# Altium integrated library TI Power Management Power Modules.IntLib: 831 symbols (part 17 of 44)
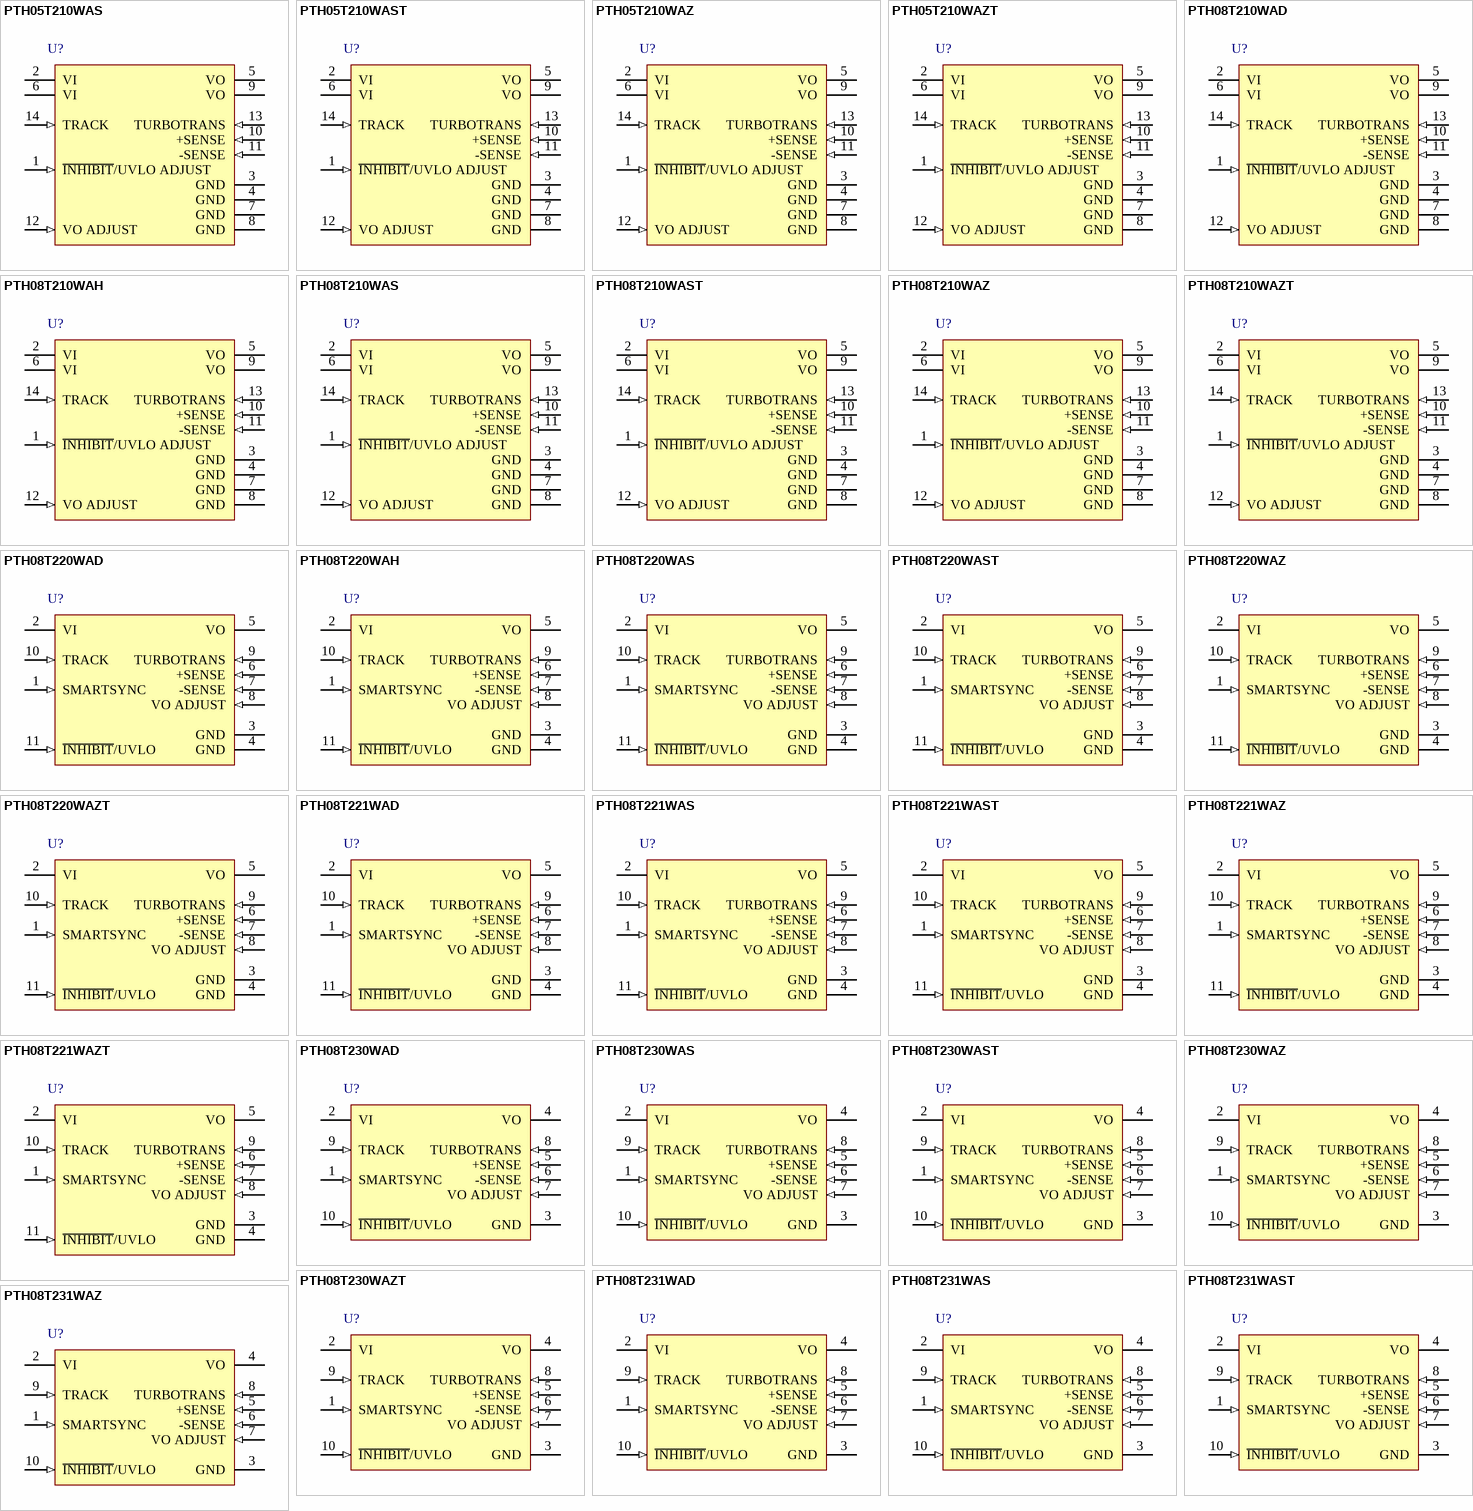
[diagram p39: symbols PTH05T210WAS to PTH08T231WAZ]

## PTH08T220WAH
designator U?
16 A, 4.5 to 14 V Input, Non-Isolated, Wide Output Adjust, Power Module with TurboTrans, -40 to 85 degC, 11-pin Module (EAS11), Pb-Free (RoHS); Manufacturer: Texas Instruments; PartNumber: PTH08T220WAH; Iout(Max)(A): 16; Regulated Outputs(#): 1; SubFamily: Non-Isolated POL; Vin(Max)(V): 14; Vin(Min)(V): 4.5; VO Adjustable: TRUE; Vout(Max)(V): 5.5; Vout(Min)(V): 0.69; DatasheetVersion: SLTS252K; PackageVersion: 4207363/E; PackageReference: EAS11; PackageDescription: 11-Pin Plastic Special Shape, Body 18.93 x 22.1 mm; Supplier 1: Digi-Key; Supplier Part Number 1: 296-20439-ND; Supplier 2: Newark; Supplier Part Number 2: 28M9273; Supplier 3: Mouser; Supplier Part Number 3: 595-PTH08T220WAH; Eco-Plan: Pb-Free (RoHS); Mounting Technology: Through Hole; ComponentLink1Description: Manufacturer URL; ComponentLink1URL: http://www.ti.com/; ComponentLink2Description: Datasheet; ComponentLink2URL: http://www.ti.com/general/docs/lit/getliterature.tsp?genericPartNumber=PTH08T220W&fileType=pdf; ComponentLink3Description: Package Specification; ComponentLink3URL: http://www.ti.com/litv/pdf/mpds228d; ComponentLink4Description: URL Link1; ComponentLink4URL: Samples URL:http://www.ti.com/product/pth08t220w#samples
footprint TI-EAS11_V (Module, 11-Leads, Body 22.1x18.93 mm)
pins: 1 SMARTSYNC (in) "This input pin sychronizes the switching frequency of the module to an external clock frequency. The SmartSync feature can be used to sychronize the switching fequency of multiple PTH08T220/221W modules, aiding EMI noise (See Datasheet)", 2 VI (power) "The positive input voltage power node to the module, which is referenced to common GND.", 3 GND (power) "This is the common ground connection for the VI and VO power connections. It is also the 0 Vdc reference for the control inputs.", 4 GND (power) "This is the common ground connection for the VI and VO power connections. It is also the 0 Vdc reference for the control inputs.", 5 VO (power) "The regulated positive power output with respect to GND.", 6 +SENSE (in) "The sense input allows the regulation circuit to compensate for voltage drop between the module and the load. For optimal voltage accuracy, +Sense must be connected to VO, very close to the load.", 7 -SENSE (in) "The sense input allows the regulation circuit to compensate for voltage drop between the module and the load. For optimal voltage accuracy -Sense must be connected to GND (pin4) very close to the module (within 10cm).", 8 VO ADJUST (in) "A 0.05 W 1% resistor must be directly connected between this pin and pin7 (-Sense) to set the output voltage to a value higher than 0.69V. The temperature stability of the resistor should be 100 ppm/degreesC (or better). The (See Datasheet)", 9 TURBOTRANS (in) "This input pin adjusts the transient response of the regulator. To activate the TurboTrans? feature, a 1%, 50mW resistor must be connected between this pin and pin 6 (+Sense) very close to the module. For a given value of (See Datasheet)", 10 TRACK (in) "This is an analog control input that enables the output voltage to follow an external voltage. This pin becomes active typically 20 ms after the input voltage has been applied, and allows direct control of the output voltage (See Datasheet)", 11 ~{INHIBIT}/UVLO (in) "The Inhibit pin is an open-collector/drain, negative logic input that is referenced to GND. Applying a low level ground signal to this input disables the module’s output and turns off the output voltage. When the Inhibit (See Datasheet)"

## PTH08T220WAS
designator U?
16 A, 4.5 to 14 V Input, Non-Isolated, Wide Output Adjust, Power Module with TurboTrans, -40 to 85 degC, 11-pin Module (EAT11); Manufacturer: Texas Instruments; PartNumber: PTH08T220WAS; Eco-Plan: TBD; Iout(Max)(A): 16; Regulated Outputs(#): 1; SubFamily: Non-Isolated POL; Vin(Max)(V): 14; Vin(Min)(V): 4.5; VO Adjustable: TRUE; Vout(Max)(V): 5.5; Vout(Min)(V): 0.69; DatasheetVersion: SLTS252K; PackageVersion: 4207364/E; PackageReference: EAT11; PackageDescription: 11-Pin Plastic Special Shape, Body 18.93 x 22.1 mm; Supplier 1: Digi-Key; Supplier Part Number 1: 296-20440-ND; Supplier 2: Newark; Supplier Part Number 2: 66K4118; Supplier 3: Mouser; Supplier Part Number 3: 595-PTH08T220WAS; Mounting Technology: Surface Mount; ComponentLink1Description: Manufacturer URL; ComponentLink1URL: http://www.ti.com/; ComponentLink2Description: Datasheet; ComponentLink2URL: http://www.ti.com/general/docs/lit/getliterature.tsp?genericPartNumber=PTH08T220W&fileType=pdf; ComponentLink3Description: Package Specification; ComponentLink3URL: http://www.ti.com/litv/pdf/mpds229d; ComponentLink4Description: URL Link1; ComponentLink4URL: Samples URL:http://www.ti.com/product/pth08t220w#samples
footprint TI-EAT11_V (Module, 11-Leads, Body 22.1x18.93mm)
pins: 1 SMARTSYNC (in) "This input pin sychronizes the switching frequency of the module to an external clock frequency. The SmartSync feature can be used to sychronize the switching fequency of multiple PTH08T220/221W modules, aiding EMI noise (See Datasheet)", 2 VI (power) "The positive input voltage power node to the module, which is referenced to common GND.", 3 GND (power) "This is the common ground connection for the VI and VO power connections. It is also the 0 Vdc reference for the control inputs.", 4 GND (power) "This is the common ground connection for the VI and VO power connections. It is also the 0 Vdc reference for the control inputs.", 5 VO (power) "The regulated positive power output with respect to GND.", 6 +SENSE (in) "The sense input allows the regulation circuit to compensate for voltage drop between the module and the load. For optimal voltage accuracy, +Sense must be connected to VO, very close to the load.", 7 -SENSE (in) "The sense input allows the regulation circuit to compensate for voltage drop between the module and the load. For optimal voltage accuracy -Sense must be connected to GND (pin4) very close to the module (within 10cm).", 8 VO ADJUST (in) "A 0.05 W 1% resistor must be directly connected between this pin and pin7 (-Sense) to set the output voltage to a value higher than 0.69V. The temperature stability of the resistor should be 100 ppm/degreesC (or better). The (See Datasheet)", 9 TURBOTRANS (in) "This input pin adjusts the transient response of the regulator. To activate the TurboTrans? feature, a 1%, 50mW resistor must be connected between this pin and pin 6 (+Sense) very close to the module. For a given value of (See Datasheet)", 10 TRACK (in) "This is an analog control input that enables the output voltage to follow an external voltage. This pin becomes active typically 20 ms after the input voltage has been applied, and allows direct control of the output voltage (See Datasheet)", 11 ~{INHIBIT}/UVLO (in) "The Inhibit pin is an open-collector/drain, negative logic input that is referenced to GND. Applying a low level ground signal to this input disables the module’s output and turns off the output voltage. When the Inhibit (See Datasheet)"

## PTH08T220WAST
designator U?
16 A, 4.5 to 14 V Input, Non-Isolated, Wide Output Adjust, Power Module with TurboTrans, -40 to 85 degC, 11-pin Module (EAT11); Manufacturer: Texas Instruments; PartNumber: PTH08T220WAST; Eco-Plan: TBD; Iout(Max)(A): 16; Regulated Outputs(#): 1; SubFamily: Non-Isolated POL; Vin(Max)(V): 14; Vin(Min)(V): 4.5; VO Adjustable: TRUE; Vout(Max)(V): 5.5; Vout(Min)(V): 0.69; DatasheetVersion: SLTS252K; PackageVersion: 4207364/E; PackageReference: EAT11; PackageDescription: 11-Pin Plastic Special Shape, Body 18.93 x 22.1 mm; Supplier 1: Digi-Key; Supplier Part Number 1: PTH08T220WAST-ND; Supplier 2: Newark; Supplier Part Number 2: 66K4119; Supplier 3: Mouser; Supplier Part Number 3: 595-PTH08T220WAST; Mounting Technology: Surface Mount; ComponentLink1Description: Manufacturer URL; ComponentLink1URL: http://www.ti.com/; ComponentLink2Description: Datasheet; ComponentLink2URL: http://www.ti.com/general/docs/lit/getliterature.tsp?genericPartNumber=PTH08T220W&fileType=pdf; ComponentLink3Description: Package Specification; ComponentLink3URL: http://www.ti.com/litv/pdf/mpds229d; ComponentLink4Description: URL Link1; ComponentLink4URL: Samples URL:http://www.ti.com/product/pth08t220w#samples
footprint TI-EAT11_V (Module, 11-Leads, Body 22.1x18.93mm)
pins: 1 SMARTSYNC (in) "This input pin sychronizes the switching frequency of the module to an external clock frequency. The SmartSync feature can be used to sychronize the switching fequency of multiple PTH08T220/221W modules, aiding EMI noise (See Datasheet)", 2 VI (power) "The positive input voltage power node to the module, which is referenced to common GND.", 3 GND (power) "This is the common ground connection for the VI and VO power connections. It is also the 0 Vdc reference for the control inputs.", 4 GND (power) "This is the common ground connection for the VI and VO power connections. It is also the 0 Vdc reference for the control inputs.", 5 VO (power) "The regulated positive power output with respect to GND.", 6 +SENSE (in) "The sense input allows the regulation circuit to compensate for voltage drop between the module and the load. For optimal voltage accuracy, +Sense must be connected to VO, very close to the load.", 7 -SENSE (in) "The sense input allows the regulation circuit to compensate for voltage drop between the module and the load. For optimal voltage accuracy -Sense must be connected to GND (pin4) very close to the module (within 10cm).", 8 VO ADJUST (in) "A 0.05 W 1% resistor must be directly connected between this pin and pin7 (-Sense) to set the output voltage to a value higher than 0.69V. The temperature stability of the resistor should be 100 ppm/degreesC (or better). The (See Datasheet)", 9 TURBOTRANS (in) "This input pin adjusts the transient response of the regulator. To activate the TurboTrans? feature, a 1%, 50mW resistor must be connected between this pin and pin 6 (+Sense) very close to the module. For a given value of (See Datasheet)", 10 TRACK (in) "This is an analog control input that enables the output voltage to follow an external voltage. This pin becomes active typically 20 ms after the input voltage has been applied, and allows direct control of the output voltage (See Datasheet)", 11 ~{INHIBIT}/UVLO (in) "The Inhibit pin is an open-collector/drain, negative logic input that is referenced to GND. Applying a low level ground signal to this input disables the module’s output and turns off the output voltage. When the Inhibit (See Datasheet)"

## PTH08T220WAZ
designator U?
16 A, 4.5 to 14 V Input, Non-Isolated, Wide Output Adjust, Power Module with TurboTrans, -40 to 85 degC, 11-pin Module (BAT11), Pb-Free (RoHS); Manufacturer: Texas Instruments; PartNumber: PTH08T220WAZ; Iout(Max)(A): 16; Regulated Outputs(#): 1; SubFamily: Non-Isolated POL; Vin(Max)(V): 14; Vin(Min)(V): 4.5; VO Adjustable: TRUE; Vout(Max)(V): 5.5; Vout(Min)(V): 0.69; DatasheetVersion: SLTS252K; PackageVersion: 4207715/E; PackageReference: BAT11; PackageDescription: 11-Pin Plastic Special Shape, Body 18.93 x 22.1 mm; Supplier 1: Digi-Key; Supplier Part Number 1: 296-20441-ND; Supplier 2: Farnell; Supplier Part Number 2: 1704191; Supplier 3: Newark; Supplier Part Number 3: 66K4120; Supplier 4: Mouser; Supplier Part Number 4: 595-PTH08T220WAZ; Eco-Plan: Pb-Free (RoHS); Mounting Technology: Surface Mount; ComponentLink1Description: Manufacturer URL; ComponentLink1URL: http://www.ti.com/; ComponentLink2Description: Datasheet; ComponentLink2URL: http://www.ti.com/general/docs/lit/getliterature.tsp?genericPartNumber=PTH08T220W&fileType=pdf; ComponentLink3Description: Package Specification; ComponentLink3URL: http://www.ti.com/lit/ml/mpds264d/mpds264d.pdf; ComponentLink4Description: URL Link1; ComponentLink4URL: Samples URL:http://www.ti.com/product/pth08t220w#samples
footprint TI-BAT11_V (Module, 11-Leads, Body 22.1x18.93mm)
pins: 1 SMARTSYNC (in) "This input pin sychronizes the switching frequency of the module to an external clock frequency. The SmartSync feature can be used to sychronize the switching fequency of multiple PTH08T220/221W modules, aiding EMI noise (See Datasheet)", 2 VI (power) "The positive input voltage power node to the module, which is referenced to common GND.", 3 GND (power) "This is the common ground connection for the VI and VO power connections. It is also the 0 Vdc reference for the control inputs.", 4 GND (power) "This is the common ground connection for the VI and VO power connections. It is also the 0 Vdc reference for the control inputs.", 5 VO (power) "The regulated positive power output with respect to GND.", 6 +SENSE (in) "The sense input allows the regulation circuit to compensate for voltage drop between the module and the load. For optimal voltage accuracy, +Sense must be connected to VO, very close to the load.", 7 -SENSE (in) "The sense input allows the regulation circuit to compensate for voltage drop between the module and the load. For optimal voltage accuracy -Sense must be connected to GND (pin4) very close to the module (within 10cm).", 8 VO ADJUST (in) "A 0.05 W 1% resistor must be directly connected between this pin and pin7 (-Sense) to set the output voltage to a value higher than 0.69V. The temperature stability of the resistor should be 100 ppm/degreesC (or better). The (See Datasheet)", 9 TURBOTRANS (in) "This input pin adjusts the transient response of the regulator. To activate the TurboTrans? feature, a 1%, 50mW resistor must be connected between this pin and pin 6 (+Sense) very close to the module. For a given value of (See Datasheet)", 10 TRACK (in) "This is an analog control input that enables the output voltage to follow an external voltage. This pin becomes active typically 20 ms after the input voltage has been applied, and allows direct control of the output voltage (See Datasheet)", 11 ~{INHIBIT}/UVLO (in) "The Inhibit pin is an open-collector/drain, negative logic input that is referenced to GND. Applying a low level ground signal to this input disables the module’s output and turns off the output voltage. When the Inhibit (See Datasheet)"

## PTH08T220WAZT
designator U?
16 A, 4.5 to 14 V Input, Non-Isolated, Wide Output Adjust, Power Module with TurboTrans, -40 to 85 degC, 11-pin Module (BAT11), Pb-Free (RoHS); Manufacturer: Texas Instruments; PartNumber: PTH08T220WAZT; Iout(Max)(A): 16; Regulated Outputs(#): 1; SubFamily: Non-Isolated POL; Vin(Max)(V): 14; Vin(Min)(V): 4.5; VO Adjustable: TRUE; Vout(Max)(V): 5.5; Vout(Min)(V): 0.69; DatasheetVersion: SLTS252K; PackageVersion: 4207715/E; PackageReference: BAT11; PackageDescription: 11-Pin Plastic Special Shape, Body 18.93 x 22.1 mm; Supplier 1: Digi-Key; Supplier Part Number 1: PTH08T220WAZT-ND; Supplier 2: Newark; Supplier Part Number 2: 66K4121; Supplier 3: Mouser; Supplier Part Number 3: 595-PTH08T220WAZT; Eco-Plan: Pb-Free (RoHS); Mounting Technology: Surface Mount; ComponentLink1Description: Manufacturer URL; ComponentLink1URL: http://www.ti.com/; ComponentLink2Description: Datasheet; ComponentLink2URL: http://www.ti.com/general/docs/lit/getliterature.tsp?genericPartNumber=PTH08T220W&fileType=pdf; ComponentLink3Description: Package Specification; ComponentLink3URL: http://www.ti.com/lit/ml/mpds264d/mpds264d.pdf; ComponentLink4Description: URL Link1; ComponentLink4URL: Samples URL:http://www.ti.com/product/pth08t220w#samples
footprint TI-BAT11_V (Module, 11-Leads, Body 22.1x18.93mm)
pins: 1 SMARTSYNC (in) "This input pin sychronizes the switching frequency of the module to an external clock frequency. The SmartSync feature can be used to sychronize the switching fequency of multiple PTH08T220/221W modules, aiding EMI noise (See Datasheet)", 2 VI (power) "The positive input voltage power node to the module, which is referenced to common GND.", 3 GND (power) "This is the common ground connection for the VI and VO power connections. It is also the 0 Vdc reference for the control inputs.", 4 GND (power) "This is the common ground connection for the VI and VO power connections. It is also the 0 Vdc reference for the control inputs.", 5 VO (power) "The regulated positive power output with respect to GND.", 6 +SENSE (in) "The sense input allows the regulation circuit to compensate for voltage drop between the module and the load. For optimal voltage accuracy, +Sense must be connected to VO, very close to the load.", 7 -SENSE (in) "The sense input allows the regulation circuit to compensate for voltage drop between the module and the load. For optimal voltage accuracy -Sense must be connected to GND (pin4) very close to the module (within 10cm).", 8 VO ADJUST (in) "A 0.05 W 1% resistor must be directly connected between this pin and pin7 (-Sense) to set the output voltage to a value higher than 0.69V. The temperature stability of the resistor should be 100 ppm/degreesC (or better). The (See Datasheet)", 9 TURBOTRANS (in) "This input pin adjusts the transient response of the regulator. To activate the TurboTrans? feature, a 1%, 50mW resistor must be connected between this pin and pin 6 (+Sense) very close to the module. For a given value of (See Datasheet)", 10 TRACK (in) "This is an analog control input that enables the output voltage to follow an external voltage. This pin becomes active typically 20 ms after the input voltage has been applied, and allows direct control of the output voltage (See Datasheet)", 11 ~{INHIBIT}/UVLO (in) "The Inhibit pin is an open-collector/drain, negative logic input that is referenced to GND. Applying a low level ground signal to this input disables the module’s output and turns off the output voltage. When the Inhibit (See Datasheet)"

## PTH08T221WAD
designator U?
16 A, 4.5 to 14 V Input, Ceramic Cap Version, Non-Iso, Wide Output Adj, Pwr Module with TurboTrans, -40 to 85 degC, 11-pin Module (EAS11), Pb-Free (RoHS); Manufacturer: Texas Instruments; PartNumber: PTH08T221WAD; Iout(Max)(A): 16; Regulated Outputs(#): 1; SubFamily: Non-Isolated POL; Vin(Max)(V): 14; Vin(Min)(V): 4.5; VO Adjustable: TRUE; Vout(Max)(V): 5.5; Vout(Min)(V): 0.69; DatasheetVersion: SLTS252K; PackageVersion: 4207363/E; PackageReference: EAS11; PackageDescription: 11-Pin Plastic Special Shape, Body 18.93 x 22.1 mm; Supplier 1: Digi-Key; Supplier Part Number 1: 296-21334-ND; Supplier 2: Farnell; Supplier Part Number 2: 1755098; Supplier 3: Newark; Supplier Part Number 3: 34R8211; Supplier 4: Newark; Supplier Part Number 4: 22M1617; Supplier 5: Mouser; Supplier Part Number 5: 595-PTH08T221WAD; Eco-Plan: Pb-Free (RoHS); Mounting Technology: Through Hole; ComponentLink1Description: Manufacturer URL; ComponentLink1URL: http://www.ti.com/; ComponentLink2Description: Datasheet; ComponentLink2URL: http://www.ti.com/general/docs/lit/getliterature.tsp?genericPartNumber=PTH08T221W&fileType=pdf; ComponentLink3Description: Package Specification; ComponentLink3URL: http://www.ti.com/litv/pdf/mpds228d; ComponentLink4Description: URL Link1; ComponentLink4URL: Samples URL:http://www.ti.com/product/pth08t221w#samples
footprint TI-EAS11_V (Module, 11-Leads, Body 22.1x18.93 mm)
pins: 1 SMARTSYNC (in) "This input pin sychronizes the switching frequency of the module to an external clock frequency. The SmartSync feature can be used to sychronize the switching fequency of multiple PTH08T220/221W modules, aiding EMI noise (See Datasheet)", 2 VI (power) "The positive input voltage power node to the module, which is referenced to common GND.", 3 GND (power) "This is the common ground connection for the VI and VO power connections. It is also the 0 Vdc reference for the control inputs.", 4 GND (power) "This is the common ground connection for the VI and VO power connections. It is also the 0 Vdc reference for the control inputs.", 5 VO (power) "The regulated positive power output with respect to GND.", 6 +SENSE (in) "The sense input allows the regulation circuit to compensate for voltage drop between the module and the load. For optimal voltage accuracy, +Sense must be connected to VO, very close to the load.", 7 -SENSE (in) "The sense input allows the regulation circuit to compensate for voltage drop between the module and the load. For optimal voltage accuracy -Sense must be connected to GND (pin4) very close to the module (within 10cm).", 8 VO ADJUST (in) "A 0.05 W 1% resistor must be directly connected between this pin and pin7 (-Sense) to set the output voltage to a value higher than 0.69V. The temperature stability of the resistor should be 100 ppm/degreesC (or better). The (See Datasheet)", 9 TURBOTRANS (in) "This input pin adjusts the transient response of the regulator. To activate the TurboTrans? feature, a 1%, 50mW resistor must be connected between this pin and pin 6 (+Sense) very close to the module. For a given value of (See Datasheet)", 10 TRACK (in) "This is an analog control input that enables the output voltage to follow an external voltage. This pin becomes active typically 20 ms after the input voltage has been applied, and allows direct control of the output voltage (See Datasheet)", 11 ~{INHIBIT}/UVLO (in) "The Inhibit pin is an open-collector/drain, negative logic input that is referenced to GND. Applying a low level ground signal to this input disables the module’s output and turns off the output voltage. When the Inhibit (See Datasheet)"

## PTH08T221WAS
designator U?
16 A, 4.5 to 14 V Input, Ceramic Cap Version, Non-Iso, Wide Output Adj, Pwr Module with TurboTrans, -40 to 85 degC, 11-pin Module (EAT11); Manufacturer: Texas Instruments; PartNumber: PTH08T221WAS; Eco-Plan: TBD; Iout(Max)(A): 16; Regulated Outputs(#): 1; SubFamily: Non-Isolated POL; Vin(Max)(V): 14; Vin(Min)(V): 4.5; VO Adjustable: TRUE; Vout(Max)(V): 5.5; Vout(Min)(V): 0.69; DatasheetVersion: SLTS252K; PackageVersion: 4207364/E; PackageReference: EAT11; PackageDescription: 11-Pin Plastic Special Shape, Body 18.93 x 22.1 mm; Supplier 1: Digi-Key; Supplier Part Number 1: 296-21335-ND; Supplier 2: Newark; Supplier Part Number 2: 22M1618; Supplier 3: Mouser; Supplier Part Number 3: 595-PTH08T221WAS; Mounting Technology: Surface Mount; ComponentLink1Description: Manufacturer URL; ComponentLink1URL: http://www.ti.com/; ComponentLink2Description: Datasheet; ComponentLink2URL: http://www.ti.com/general/docs/lit/getliterature.tsp?genericPartNumber=PTH08T221W&fileType=pdf; ComponentLink3Description: Package Specification; ComponentLink3URL: http://www.ti.com/litv/pdf/mpds229d; ComponentLink4Description: URL Link1; ComponentLink4URL: Samples URL:http://www.ti.com/product/pth08t221w#samples
footprint TI-EAT11_V (Module, 11-Leads, Body 22.1x18.93mm)
pins: 1 SMARTSYNC (in) "This input pin sychronizes the switching frequency of the module to an external clock frequency. The SmartSync feature can be used to sychronize the switching fequency of multiple PTH08T220/221W modules, aiding EMI noise (See Datasheet)", 2 VI (power) "The positive input voltage power node to the module, which is referenced to common GND.", 3 GND (power) "This is the common ground connection for the VI and VO power connections. It is also the 0 Vdc reference for the control inputs.", 4 GND (power) "This is the common ground connection for the VI and VO power connections. It is also the 0 Vdc reference for the control inputs.", 5 VO (power) "The regulated positive power output with respect to GND.", 6 +SENSE (in) "The sense input allows the regulation circuit to compensate for voltage drop between the module and the load. For optimal voltage accuracy, +Sense must be connected to VO, very close to the load.", 7 -SENSE (in) "The sense input allows the regulation circuit to compensate for voltage drop between the module and the load. For optimal voltage accuracy -Sense must be connected to GND (pin4) very close to the module (within 10cm).", 8 VO ADJUST (in) "A 0.05 W 1% resistor must be directly connected between this pin and pin7 (-Sense) to set the output voltage to a value higher than 0.69V. The temperature stability of the resistor should be 100 ppm/degreesC (or better). The (See Datasheet)", 9 TURBOTRANS (in) "This input pin adjusts the transient response of the regulator. To activate the TurboTrans? feature, a 1%, 50mW resistor must be connected between this pin and pin 6 (+Sense) very close to the module. For a given value of (See Datasheet)", 10 TRACK (in) "This is an analog control input that enables the output voltage to follow an external voltage. This pin becomes active typically 20 ms after the input voltage has been applied, and allows direct control of the output voltage (See Datasheet)", 11 ~{INHIBIT}/UVLO (in) "The Inhibit pin is an open-collector/drain, negative logic input that is referenced to GND. Applying a low level ground signal to this input disables the module’s output and turns off the output voltage. When the Inhibit (See Datasheet)"

## PTH08T221WAST
designator U?
16 A, 4.5 to 14 V Input, Ceramic Cap Version, Non-Iso, Wide Output Adj, Pwr Module with TurboTrans, -40 to 85 degC, 11-pin Module (EAT11); Manufacturer: Texas Instruments; PartNumber: PTH08T221WAST; Eco-Plan: TBD; Iout(Max)(A): 16; Regulated Outputs(#): 1; SubFamily: Non-Isolated POL; Vin(Max)(V): 14; Vin(Min)(V): 4.5; VO Adjustable: TRUE; Vout(Max)(V): 5.5; Vout(Min)(V): 0.69; DatasheetVersion: SLTS252K; PackageVersion: 4207364/E; PackageReference: EAT11; PackageDescription: 11-Pin Plastic Special Shape, Body 18.93 x 22.1 mm; Supplier 1: Digi-Key; Supplier Part Number 1: PTH08T221WAST-ND; Supplier 2: Newark; Supplier Part Number 2: 22M1619; Supplier 3: Mouser; Supplier Part Number 3: 595-PTH08T221WAST; Mounting Technology: Surface Mount; ComponentLink1Description: Manufacturer URL; ComponentLink1URL: http://www.ti.com/; ComponentLink2Description: Datasheet; ComponentLink2URL: http://www.ti.com/general/docs/lit/getliterature.tsp?genericPartNumber=PTH08T221W&fileType=pdf; ComponentLink3Description: Package Specification; ComponentLink3URL: http://www.ti.com/litv/pdf/mpds229d; ComponentLink4Description: URL Link1; ComponentLink4URL: Samples URL:http://www.ti.com/product/pth08t221w#samples
footprint TI-EAT11_V (Module, 11-Leads, Body 22.1x18.93mm)
pins: 1 SMARTSYNC (in) "This input pin sychronizes the switching frequency of the module to an external clock frequency. The SmartSync feature can be used to sychronize the switching fequency of multiple PTH08T220/221W modules, aiding EMI noise (See Datasheet)", 2 VI (power) "The positive input voltage power node to the module, which is referenced to common GND.", 3 GND (power) "This is the common ground connection for the VI and VO power connections. It is also the 0 Vdc reference for the control inputs.", 4 GND (power) "This is the common ground connection for the VI and VO power connections. It is also the 0 Vdc reference for the control inputs.", 5 VO (power) "The regulated positive power output with respect to GND.", 6 +SENSE (in) "The sense input allows the regulation circuit to compensate for voltage drop between the module and the load. For optimal voltage accuracy, +Sense must be connected to VO, very close to the load.", 7 -SENSE (in) "The sense input allows the regulation circuit to compensate for voltage drop between the module and the load. For optimal voltage accuracy -Sense must be connected to GND (pin4) very close to the module (within 10cm).", 8 VO ADJUST (in) "A 0.05 W 1% resistor must be directly connected between this pin and pin7 (-Sense) to set the output voltage to a value higher than 0.69V. The temperature stability of the resistor should be 100 ppm/degreesC (or better). The (See Datasheet)", 9 TURBOTRANS (in) "This input pin adjusts the transient response of the regulator. To activate the TurboTrans? feature, a 1%, 50mW resistor must be connected between this pin and pin 6 (+Sense) very close to the module. For a given value of (See Datasheet)", 10 TRACK (in) "This is an analog control input that enables the output voltage to follow an external voltage. This pin becomes active typically 20 ms after the input voltage has been applied, and allows direct control of the output voltage (See Datasheet)", 11 ~{INHIBIT}/UVLO (in) "The Inhibit pin is an open-collector/drain, negative logic input that is referenced to GND. Applying a low level ground signal to this input disables the module’s output and turns off the output voltage. When the Inhibit (See Datasheet)"

## PTH08T221WAZ
designator U?
16 A, 4.5 to 14 V Input, Ceramic Cap Version, Non-Iso, Wide Output Adj, Pwr Module with TurboTrans, -40 to 85 degC, 11-pin Module (BAT11), Pb-Free (RoHS); Manufacturer: Texas Instruments; PartNumber: PTH08T221WAZ; Iout(Max)(A): 16; Regulated Outputs(#): 1; SubFamily: Non-Isolated POL; Vin(Max)(V): 14; Vin(Min)(V): 4.5; VO Adjustable: TRUE; Vout(Max)(V): 5.5; Vout(Min)(V): 0.69; DatasheetVersion: SLTS252K; PackageVersion: 4207715/E; PackageReference: BAT11; PackageDescription: 11-Pin Plastic Special Shape, Body 18.93 x 22.1 mm; Supplier 1: Digi-Key; Supplier Part Number 1: 296-21336-ND; Supplier 2: Newark; Supplier Part Number 2: 22M1620; Supplier 3: Mouser; Supplier Part Number 3: 595-PTH08T221WAZ; Eco-Plan: Pb-Free (RoHS); Mounting Technology: Surface Mount; ComponentLink1Description: Manufacturer URL; ComponentLink1URL: http://www.ti.com/; ComponentLink2Description: Datasheet; ComponentLink2URL: http://www.ti.com/general/docs/lit/getliterature.tsp?genericPartNumber=PTH08T221W&fileType=pdf; ComponentLink3Description: Package Specification; ComponentLink3URL: http://www.ti.com/lit/ml/mpds264d/mpds264d.pdf; ComponentLink4Description: URL Link1; ComponentLink4URL: Samples URL:http://www.ti.com/product/pth08t221w#samples
footprint TI-BAT11_V (Module, 11-Leads, Body 22.1x18.93mm)
pins: 1 SMARTSYNC (in) "This input pin sychronizes the switching frequency of the module to an external clock frequency. The SmartSync feature can be used to sychronize the switching fequency of multiple PTH08T220/221W modules, aiding EMI noise (See Datasheet)", 2 VI (power) "The positive input voltage power node to the module, which is referenced to common GND.", 3 GND (power) "This is the common ground connection for the VI and VO power connections. It is also the 0 Vdc reference for the control inputs.", 4 GND (power) "This is the common ground connection for the VI and VO power connections. It is also the 0 Vdc reference for the control inputs.", 5 VO (power) "The regulated positive power output with respect to GND.", 6 +SENSE (in) "The sense input allows the regulation circuit to compensate for voltage drop between the module and the load. For optimal voltage accuracy, +Sense must be connected to VO, very close to the load.", 7 -SENSE (in) "The sense input allows the regulation circuit to compensate for voltage drop between the module and the load. For optimal voltage accuracy -Sense must be connected to GND (pin4) very close to the module (within 10cm).", 8 VO ADJUST (in) "A 0.05 W 1% resistor must be directly connected between this pin and pin7 (-Sense) to set the output voltage to a value higher than 0.69V. The temperature stability of the resistor should be 100 ppm/degreesC (or better). The (See Datasheet)", 9 TURBOTRANS (in) "This input pin adjusts the transient response of the regulator. To activate the TurboTrans? feature, a 1%, 50mW resistor must be connected between this pin and pin 6 (+Sense) very close to the module. For a given value of (See Datasheet)", 10 TRACK (in) "This is an analog control input that enables the output voltage to follow an external voltage. This pin becomes active typically 20 ms after the input voltage has been applied, and allows direct control of the output voltage (See Datasheet)", 11 ~{INHIBIT}/UVLO (in) "The Inhibit pin is an open-collector/drain, negative logic input that is referenced to GND. Applying a low level ground signal to this input disables the module’s output and turns off the output voltage. When the Inhibit (See Datasheet)"

## PTH08T221WAZT
designator U?
16 A, 4.5 to 14 V Input, Ceramic Cap Version, Non-Iso, Wide Output Adj, Pwr Module with TurboTrans, -40 to 85 degC, 11-pin Module (BAT11), Pb-Free (RoHS); Manufacturer: Texas Instruments; PartNumber: PTH08T221WAZT; Iout(Max)(A): 16; Regulated Outputs(#): 1; SubFamily: Non-Isolated POL; Vin(Max)(V): 14; Vin(Min)(V): 4.5; VO Adjustable: TRUE; Vout(Max)(V): 5.5; Vout(Min)(V): 0.69; DatasheetVersion: SLTS252K; PackageVersion: 4207715/E; PackageReference: BAT11; PackageDescription: 11-Pin Plastic Special Shape, Body 18.93 x 22.1 mm; Supplier 1: Digi-Key; Supplier Part Number 1: PTH08T221WAZT-ND; Supplier 2: Newark; Supplier Part Number 2: 22M1621; Supplier 3: Mouser; Supplier Part Number 3: 595-PTH08T221WAZT; Eco-Plan: Pb-Free (RoHS); Mounting Technology: Surface Mount; ComponentLink1Description: Manufacturer URL; ComponentLink1URL: http://www.ti.com/; ComponentLink2Description: Datasheet; ComponentLink2URL: http://www.ti.com/general/docs/lit/getliterature.tsp?genericPartNumber=PTH08T221W&fileType=pdf; ComponentLink3Description: Package Specification; ComponentLink3URL: http://www.ti.com/lit/ml/mpds264d/mpds264d.pdf; ComponentLink4Description: URL Link1; ComponentLink4URL: Samples URL:http://www.ti.com/product/pth08t221w#samples
footprint TI-BAT11_V (Module, 11-Leads, Body 22.1x18.93mm)
pins: 1 SMARTSYNC (in) "This input pin sychronizes the switching frequency of the module to an external clock frequency. The SmartSync feature can be used to sychronize the switching fequency of multiple PTH08T220/221W modules, aiding EMI noise (See Datasheet)", 2 VI (power) "The positive input voltage power node to the module, which is referenced to common GND.", 3 GND (power) "This is the common ground connection for the VI and VO power connections. It is also the 0 Vdc reference for the control inputs.", 4 GND (power) "This is the common ground connection for the VI and VO power connections. It is also the 0 Vdc reference for the control inputs.", 5 VO (power) "The regulated positive power output with respect to GND.", 6 +SENSE (in) "The sense input allows the regulation circuit to compensate for voltage drop between the module and the load. For optimal voltage accuracy, +Sense must be connected to VO, very close to the load.", 7 -SENSE (in) "The sense input allows the regulation circuit to compensate for voltage drop between the module and the load. For optimal voltage accuracy -Sense must be connected to GND (pin4) very close to the module (within 10cm).", 8 VO ADJUST (in) "A 0.05 W 1% resistor must be directly connected between this pin and pin7 (-Sense) to set the output voltage to a value higher than 0.69V. The temperature stability of the resistor should be 100 ppm/degreesC (or better). The (See Datasheet)", 9 TURBOTRANS (in) "This input pin adjusts the transient response of the regulator. To activate the TurboTrans? feature, a 1%, 50mW resistor must be connected between this pin and pin 6 (+Sense) very close to the module. For a given value of (See Datasheet)", 10 TRACK (in) "This is an analog control input that enables the output voltage to follow an external voltage. This pin becomes active typically 20 ms after the input voltage has been applied, and allows direct control of the output voltage (See Datasheet)", 11 ~{INHIBIT}/UVLO (in) "The Inhibit pin is an open-collector/drain, negative logic input that is referenced to GND. Applying a low level ground signal to this input disables the module’s output and turns off the output voltage. When the Inhibit (See Datasheet)"

## PTH08T230WAD
designator U?
6 A, 4.5 to 14 V Input, Non-Isolated, Wide Output Adjustable Power Module with TurboTrans, -40 to 85 degC, 10-pin Module (ECL10), Pb-Free (RoHS); Manufacturer: Texas Instruments; PartNumber: PTH08T230WAD; Iout(Max)(A): 6; Regulated Outputs(#): 1; SubFamily: Non-Isolated POL; Vin(Max)(V): 14; Vin(Min)(V): 4.5; VO Adjustable: TRUE; Vout(Max)(V): 5.5; Vout(Min)(V): 0.69; DatasheetVersion: SLTS265L; PackageVersion: 4207913/D; PackageReference: ECL10; PackageDescription: 10-Pin Plastic Special Shape, Body 15.75 x 18.92 mm; Supplier 1: Digi-Key; Supplier Part Number 1: 296-20647-ND; Supplier 2: Farnell; Supplier Part Number 2: 1408566; Supplier 3: Newark; Supplier Part Number 3: 03M9751; Supplier 4: Mouser; Supplier Part Number 4: 595-PTH08T230WAD; Eco-Plan: Pb-Free (RoHS); Mounting Technology: Through Hole; ComponentLink1Description: Manufacturer URL; ComponentLink1URL: http://www.ti.com/; ComponentLink2Description: Datasheet; ComponentLink2URL: http://www.ti.com/general/docs/lit/getliterature.tsp?genericPartNumber=PTH08T230W&fileType=pdf; ComponentLink3Description: Package Specification; ComponentLink3URL: http://www.ti.com/litv/pdf/mpds290c; ComponentLink4Description: URL Link1; ComponentLink4URL: Samples URL:http://www.ti.com/product/pth08t230w#samples
footprint TI-ECL10_V (Module, 10-Leads, Body 18.92x15.75 mm)
pins: 1 SMARTSYNC (in) "This input pin sychronizes the switching frequency of the module to an external clock frequency. The SmartSync feature can be used to sychronize the switching fequency of multiple PTH04T230/231W modules, aiding EMI noise (See Datasheet)", 2 VI (power) "The positive input voltage power node to the module, which is referenced to common GND.", 3 GND (power) "This is the common ground connection for the VI and VO power connections. It is also the 0 Vdc reference for the control inputs.", 4 VO (power) "The regulated positive power output with respect to the GND", 5 +SENSE (in) "The sense input allows the regulation circuit to compensate for voltage drop between the module and the load. For optimal voltage accuracy, +Sense must be connected to VO, close to the load.", 6 -SENSE (in) "The sense input allows the regulation circuit to compensate for voltage drop between the module and the load. For optimal voltage accuracy, -Sense must be connected to GND (pin 3), very close to the module (within 10 cm).", 7 VO ADJUST (in) "A 0.05 W 1% resistor must be directly connected between this pin and pin 6 (- Sense) to set the output voltage to a value higher than 0.69 V. The temperature stability of the resistor should be 100 ppm/degreesC (or better). (See Datasheet)", 8 TURBOTRANS (in) "This input pin adjusts the transient response of the regulator. To activate the TurboTrans feature, a 1%, 0.05 W resistor must be connected between this pin and pin 5 (+Sense) very close to the module. For a given value of (See Datasheet)", 9 TRACK (in) "This is an analog control input that enables the output voltage to follow an external voltage. This pin becomes active typically 20 ms after the input voltage has been applied, and allows direct control of the output voltage (See Datasheet)", 10 ~{INHIBIT}/UVLO (in) "The Inhibit pin is an open-collector/drain, negative logic input that is referenced to GND. Applying a low level ground signal to this input disables the module’s output and turns off the output voltage. When the Inhibit (See Datasheet)"

## PTH08T230WAS
designator U?
6 A, 4.5 to 14 V Input, Non-Isolated, Wide Output Adjustable Power Module with TurboTrans, -40 to 85 degC, 10-pin Module (ECM10); Manufacturer: Texas Instruments; PartNumber: PTH08T230WAS; Eco-Plan: TBD; Iout(Max)(A): 6; Regulated Outputs(#): 1; SubFamily: Non-Isolated POL; Vin(Max)(V): 14; Vin(Min)(V): 4.5; VO Adjustable: TRUE; Vout(Max)(V): 5.5; Vout(Min)(V): 0.69; DatasheetVersion: SLTS265L; PackageVersion: 4207914/E; PackageReference: ECM10; PackageDescription: 10-Pin Plastic Special Shape, Body 15.75 x 18.92 mm; Supplier 1: Digi-Key; Supplier Part Number 1: 296-20648-ND; Supplier 2: Newark; Supplier Part Number 2: 03M9752; Supplier 3: Mouser; Supplier Part Number 3: 595-PTH08T230WAS; Mounting Technology: Surface Mount; ComponentLink1Description: Manufacturer URL; ComponentLink1URL: http://www.ti.com/; ComponentLink2Description: Datasheet; ComponentLink2URL: http://www.ti.com/general/docs/lit/getliterature.tsp?genericPartNumber=PTH08T230W&fileType=pdf; ComponentLink3Description: Package Specification; ComponentLink3URL: http://www.ti.com/litv/pdf/mpds291d; ComponentLink4Description: URL Link1; ComponentLink4URL: Samples URL:http://www.ti.com/product/pth08t230w#samples
footprint TI-ECM10_V (Module, 10-Leads, Body 18.92x15.75mm)
pins: 1 SMARTSYNC (in) "This input pin sychronizes the switching frequency of the module to an external clock frequency. The SmartSync feature can be used to sychronize the switching fequency of multiple PTH04T230/231W modules, aiding EMI noise (See Datasheet)", 2 VI (power) "The positive input voltage power node to the module, which is referenced to common GND.", 3 GND (power) "This is the common ground connection for the VI and VO power connections. It is also the 0 Vdc reference for the control inputs.", 4 VO (power) "The regulated positive power output with respect to the GND", 5 +SENSE (in) "The sense input allows the regulation circuit to compensate for voltage drop between the module and the load. For optimal voltage accuracy, +Sense must be connected to VO, close to the load.", 6 -SENSE (in) "The sense input allows the regulation circuit to compensate for voltage drop between the module and the load. For optimal voltage accuracy, -Sense must be connected to GND (pin 3), very close to the module (within 10 cm).", 7 VO ADJUST (in) "A 0.05 W 1% resistor must be directly connected between this pin and pin 6 (- Sense) to set the output voltage to a value higher than 0.69 V. The temperature stability of the resistor should be 100 ppm/degreesC (or better). (See Datasheet)", 8 TURBOTRANS (in) "This input pin adjusts the transient response of the regulator. To activate the TurboTrans feature, a 1%, 0.05 W resistor must be connected between this pin and pin 5 (+Sense) very close to the module. For a given value of (See Datasheet)", 9 TRACK (in) "This is an analog control input that enables the output voltage to follow an external voltage. This pin becomes active typically 20 ms after the input voltage has been applied, and allows direct control of the output voltage (See Datasheet)", 10 ~{INHIBIT}/UVLO (in) "The Inhibit pin is an open-collector/drain, negative logic input that is referenced to GND. Applying a low level ground signal to this input disables the module’s output and turns off the output voltage. When the Inhibit (See Datasheet)"

## PTH08T230WAST
designator U?
6 A, 4.5 to 14 V Input, Non-Isolated, Wide Output Adjustable Power Module with TurboTrans, -40 to 85 degC, 10-pin Module (ECM10); Manufacturer: Texas Instruments; PartNumber: PTH08T230WAST; Eco-Plan: TBD; Iout(Max)(A): 6; Regulated Outputs(#): 1; SubFamily: Non-Isolated POL; Vin(Max)(V): 14; Vin(Min)(V): 4.5; VO Adjustable: TRUE; Vout(Max)(V): 5.5; Vout(Min)(V): 0.69; DatasheetVersion: SLTS265L; PackageVersion: 4207914/E; PackageReference: ECM10; PackageDescription: 10-Pin Plastic Special Shape, Body 15.75 x 18.92 mm; Supplier 1: Digi-Key; Supplier Part Number 1: PTH08T230WAST-ND; Supplier 2: Newark; Supplier Part Number 2: 03M9753; Supplier 3: Mouser; Supplier Part Number 3: 595-PTH08T230WAST; Mounting Technology: Surface Mount; ComponentLink1Description: Manufacturer URL; ComponentLink1URL: http://www.ti.com/; ComponentLink2Description: Datasheet; ComponentLink2URL: http://www.ti.com/general/docs/lit/getliterature.tsp?genericPartNumber=PTH08T230W&fileType=pdf; ComponentLink3Description: Package Specification; ComponentLink3URL: http://www.ti.com/litv/pdf/mpds291d; ComponentLink4Description: URL Link1; ComponentLink4URL: Samples URL:http://www.ti.com/product/pth08t230w#samples
footprint TI-ECM10_V (Module, 10-Leads, Body 18.92x15.75mm)
pins: 1 SMARTSYNC (in) "This input pin sychronizes the switching frequency of the module to an external clock frequency. The SmartSync feature can be used to sychronize the switching fequency of multiple PTH04T230/231W modules, aiding EMI noise (See Datasheet)", 2 VI (power) "The positive input voltage power node to the module, which is referenced to common GND.", 3 GND (power) "This is the common ground connection for the VI and VO power connections. It is also the 0 Vdc reference for the control inputs.", 4 VO (power) "The regulated positive power output with respect to the GND", 5 +SENSE (in) "The sense input allows the regulation circuit to compensate for voltage drop between the module and the load. For optimal voltage accuracy, +Sense must be connected to VO, close to the load.", 6 -SENSE (in) "The sense input allows the regulation circuit to compensate for voltage drop between the module and the load. For optimal voltage accuracy, -Sense must be connected to GND (pin 3), very close to the module (within 10 cm).", 7 VO ADJUST (in) "A 0.05 W 1% resistor must be directly connected between this pin and pin 6 (- Sense) to set the output voltage to a value higher than 0.69 V. The temperature stability of the resistor should be 100 ppm/degreesC (or better). (See Datasheet)", 8 TURBOTRANS (in) "This input pin adjusts the transient response of the regulator. To activate the TurboTrans feature, a 1%, 0.05 W resistor must be connected between this pin and pin 5 (+Sense) very close to the module. For a given value of (See Datasheet)", 9 TRACK (in) "This is an analog control input that enables the output voltage to follow an external voltage. This pin becomes active typically 20 ms after the input voltage has been applied, and allows direct control of the output voltage (See Datasheet)", 10 ~{INHIBIT}/UVLO (in) "The Inhibit pin is an open-collector/drain, negative logic input that is referenced to GND. Applying a low level ground signal to this input disables the module’s output and turns off the output voltage. When the Inhibit (See Datasheet)"

## PTH08T230WAZ
designator U?
6 A, 4.5 to 14 V Input, Non-Isolated, Wide Output Adjustable Power Module with TurboTrans, -40 to 85 degC, 10-pin Module (BCM10), Pb-Free (RoHS); Manufacturer: Texas Instruments; PartNumber: PTH08T230WAZ; Iout(Max)(A): 6; Regulated Outputs(#): 1; SubFamily: Non-Isolated POL; Vin(Max)(V): 14; Vin(Min)(V): 4.5; VO Adjustable: TRUE; Vout(Max)(V): 5.5; Vout(Min)(V): 0.69; DatasheetVersion: SLTS265L; PackageVersion: 4207915/E; PackageReference: BCM10; PackageDescription: 10-Pin Plastic Special Shape, Body 15.75 x 18.92 mm; Supplier 1: Digi-Key; Supplier Part Number 1: 296-20649-ND; Supplier 2: Farnell; Supplier Part Number 2: 1329591; Supplier 3: Newark; Supplier Part Number 3: 61M8454; Supplier 4: Newark; Supplier Part Number 4: 03M9754; Supplier 5: Mouser; Supplier Part Number 5: 595-PTH08T230WAZ; Eco-Plan: Pb-Free (RoHS); Mounting Technology: Surface Mount; ComponentLink1Description: Manufacturer URL; ComponentLink1URL: http://www.ti.com/; ComponentLink2Description: Datasheet; ComponentLink2URL: http://www.ti.com/general/docs/lit/getliterature.tsp?genericPartNumber=PTH08T230W&fileType=pdf; ComponentLink3Description: Package Specification; ComponentLink3URL: http://www.ti.com/lit/ml/mpds292d/mpds292d.pdf; ComponentLink4Description: URL Link1; ComponentLink4URL: Samples URL:http://www.ti.com/product/pth08t230w#samples
footprint TI-BCM10_V (10-Leads Double Sided Module, Body 18.92x15.75mm)
pins: 1 SMARTSYNC (in) "This input pin sychronizes the switching frequency of the module to an external clock frequency. The SmartSync feature can be used to sychronize the switching fequency of multiple PTH04T230/231W modules, aiding EMI noise (See Datasheet)", 2 VI (power) "The positive input voltage power node to the module, which is referenced to common GND.", 3 GND (power) "This is the common ground connection for the VI and VO power connections. It is also the 0 Vdc reference for the control inputs.", 4 VO (power) "The regulated positive power output with respect to the GND", 5 +SENSE (in) "The sense input allows the regulation circuit to compensate for voltage drop between the module and the load. For optimal voltage accuracy, +Sense must be connected to VO, close to the load.", 6 -SENSE (in) "The sense input allows the regulation circuit to compensate for voltage drop between the module and the load. For optimal voltage accuracy, -Sense must be connected to GND (pin 3), very close to the module (within 10 cm).", 7 VO ADJUST (in) "A 0.05 W 1% resistor must be directly connected between this pin and pin 6 (- Sense) to set the output voltage to a value higher than 0.69 V. The temperature stability of the resistor should be 100 ppm/degreesC (or better). (See Datasheet)", 8 TURBOTRANS (in) "This input pin adjusts the transient response of the regulator. To activate the TurboTrans feature, a 1%, 0.05 W resistor must be connected between this pin and pin 5 (+Sense) very close to the module. For a given value of (See Datasheet)", 9 TRACK (in) "This is an analog control input that enables the output voltage to follow an external voltage. This pin becomes active typically 20 ms after the input voltage has been applied, and allows direct control of the output voltage (See Datasheet)", 10 ~{INHIBIT}/UVLO (in) "The Inhibit pin is an open-collector/drain, negative logic input that is referenced to GND. Applying a low level ground signal to this input disables the module’s output and turns off the output voltage. When the Inhibit (See Datasheet)"